# Altium footprint library headers.PcbLib: 2 footprints
Each footprint in its own frame and in the unit in brackets; x right, y up, seen from the top. Pads: shape width x height; smd on the part's side, far side on the other; paste and mask are expansions set on the pad; w line width, h text height; cw(c..) or ccw(c..) is an arc to the next point about the centre after c.
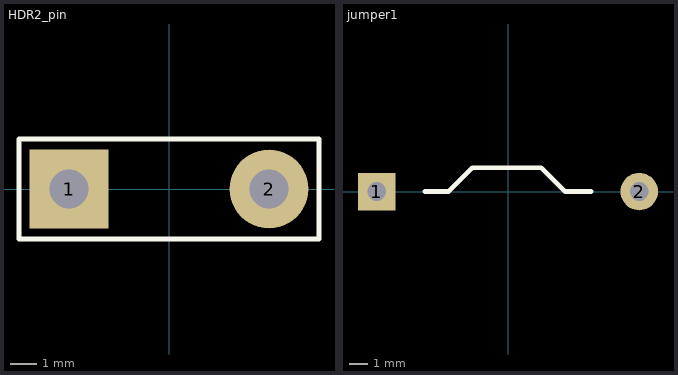
[diagram p0: the footprints below, top view; thin cyan lines are the x and y axes]

## HDR2_pin [mm] "Connector; Header; 2 Position"
pads (2):
  rect 3x3 hole 1.5: 1(-3.81,0)
  round 3 hole 1.5: 2(3.81,0)
Top Overlay:
  lines w0.2: -5.715,-1.905 5.715,-1.905 5.715,1.905 -5.715,1.905 -5.715,-1.905

## jumper1 [mm] "Connector; Header; 2 Position"
pads (2):
  rect 2x2 hole 1: 1(-7,0)
  round 2 hole 1: 2(7,0)
Top Overlay:
  lines w0.254: -4.445,0 -3.175,0 -1.905,1.27 1.778,1.27 3.048,0 4.445,0